# Altium integrated library TI Converter CODEC DSL.IntLib: 22 symbols
Pins are listed as number, name and electrical type; pins without a type are passive.

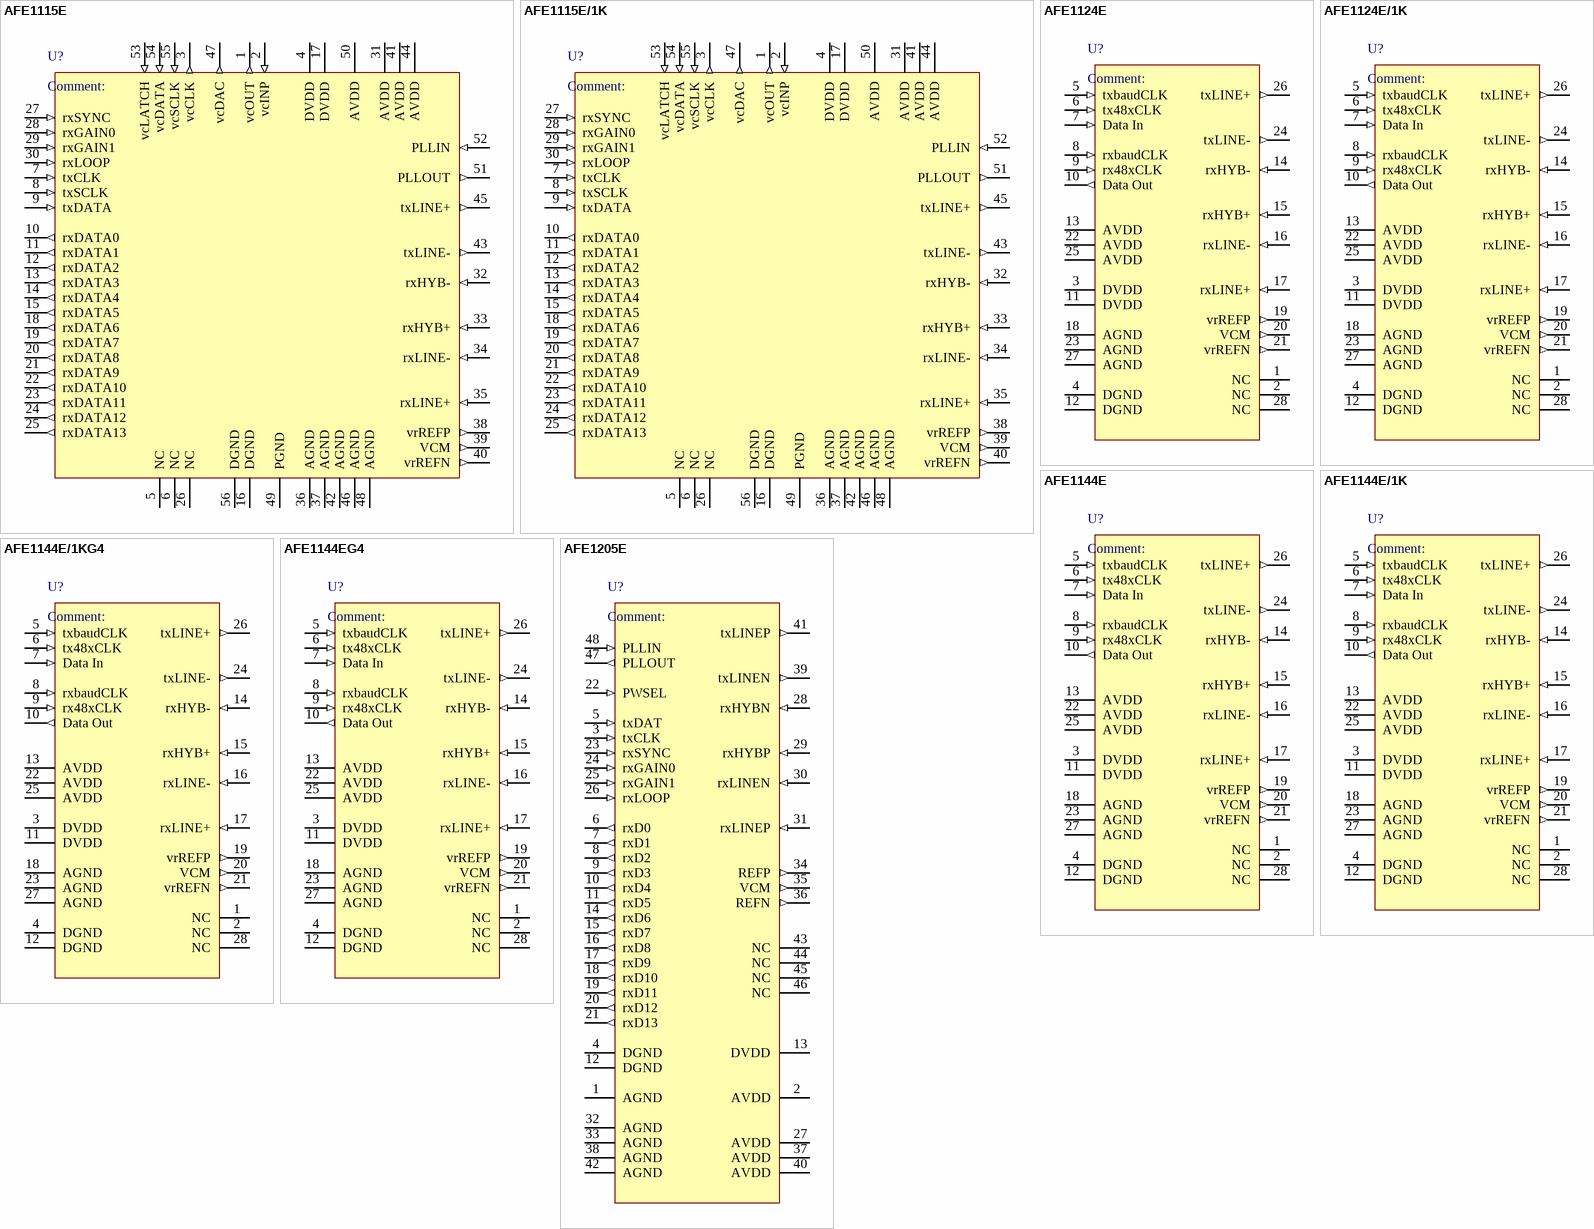
[diagram p0: symbols AFE1115E to AFE1205E]

## AFE1115E
designator U?
HDSL/MDSL Analog Front End with VCXO, 56-Pin Plastic SSOP; Published: 16-Dec-2005; DatasheetVersion: 11-Oct-2005; PackageVersion: Dec-2001; PackageReference: DL056; Publisher: Altium Limited; PackageDescription: SSOP; 56 Leads; Body Width 7.5 mm; Pitch 0.635 mm; Code_JEDEC: MO-118-AB; Code_IPC: SSO56
footprint DL056 (SSOP; 56 Leads; Body Width 7.5 mm; Pitch 0.635 mm)
pins: 1 vcOUT (out) "VCXO Output", 2 vcINP (in) "VCXO Input", 3 vcCLK (out) "VCXO Output Clock", 4 DVDD (power) "Digital Supply (+3.3 to +5V)", 5 NC "No Connection", 6 NC "No Connection", 7 txCLK (in) "Transmit Baud Clock (XMTLE signal) (1168kHz for E1)", 8 txSCLK (in) "Transmit Serial Clock", 9 txDATA (in) "Transmit Data Input", 10 rxDATA0 (out) "ADC Output Bit-0", 11 rxDATA1 (out) "ADC Output Bit-1", 12 rxDATA2 (out) "ADC Output Bit-2", 13 rxDATA3 (out) "ADC Output Bit-3", 14 rxDATA4 (out) "ADC Output Bit-4", 15 rxDATA5 (out) "ADC Output Bit-5", 16 DGND (power) "Digital Ground", 17 DVDD (power) "Digital Supply (+3.3 to +5V)", 18 rxDATA6 (out) "ADC Output Bit-6", 19 rxDATA7 (out) "ADC Output Bit-7", 20 rxDATA8 (out) "ADC Output Bit-8", 21 rxDATA9 (out) "ADC Output Bit-9", 22 rxDATA10 (out) "ADC Output Bit-10", 23 rxDATA11 (out) "ADC Output Bit-11", 24 rxDATA12 (out) "ADC Output Bit-12", 25 rxDATA13 (out) "ADC Output Bit-13", 26 NC "(DVDD may be connected for pinout compatibility with AFE1105)", 27 rxSYNC (in) "ADC Sync Signal (392kHz for T1, 584kHz for E1)", 28 rxGAIN0 (in) "Receive Gain Control Bit-0", 29 rxGAIN1 (in) "Receive Gain Control Bit-1", 30 rxLOOP (in) "Loopback Control Signal (loopback is enabled by positive signal)", 31 AVDD (power) "Analog Supply (+5V)", 32 rxHYB- (in) "Negative Input from Hybrid Network", 33 rxHYB+ (in) "Positive Input from Hybrid Network", 34 rxLINE- (in) "Negative Line Input", 35 rxLINE+ (in) "Positive Line Input", 36 AGND (power) "Analog Ground", 37 AGND (power) "Analog Ground", 38 vrREFP (out) "Positive Reference Output", 39 VCM (out) "Common-mode Voltage (buffered)", 40 vrREFN (out) "Negative Reference Output", 41 AVDD (power) "Analog Supply (+5V)", 42 AGND (power) "Analog Ground", 43 txLINE- (out) "Negative Line Output", 44 AVDD (power) "Analog Supply (+5V)", 45 txLINE+ (out) "Positive Line Output", 46 AGND (power) "Analog Ground", 47 vcDAC (out) "VCXO Control", 48 AGND (power) "Analog Ground", 49 PGND (power) "PLL Ground", 50 AVDD (power) "PLL Supply", 51 PLLOUT (out) "PLL Filter Output", 52 PLLIN (in) "PLL Filter Input", 53 vcLATCH (in) "VCXO Control Latch Enable", 54 vcDATA (in) "VCXO Control Data", 55 vcSCLK (in) "VCXO Control Serial Clock", 56 DGND (power) "Digital Ground"

## AFE1115E/1K
designator U?
HDSL/MDSL Analog Front End with VCXO, 56-Pin Plastic SSOP; Published: 16-Dec-2005; DatasheetVersion: 11-Oct-2005; PackageVersion: Dec-2001; PackageReference: DL056; Publisher: Altium Limited; PackageDescription: SSOP; 56 Leads; Body Width 7.5 mm; Pitch 0.635 mm; Code_JEDEC: MO-118-AB; Code_IPC: SSO56
footprint DL056 (SSOP; 56 Leads; Body Width 7.5 mm; Pitch 0.635 mm)
pins: 1 vcOUT (out) "VCXO Output", 2 vcINP (in) "VCXO Input", 3 vcCLK (out) "VCXO Output Clock", 4 DVDD (power) "Digital Supply (+3.3 to +5V)", 5 NC "No Connection", 6 NC "No Connection", 7 txCLK (in) "Transmit Baud Clock (XMTLE signal) (1168kHz for E1)", 8 txSCLK (in) "Transmit Serial Clock", 9 txDATA (in) "Transmit Data Input", 10 rxDATA0 (out) "ADC Output Bit-0", 11 rxDATA1 (out) "ADC Output Bit-1", 12 rxDATA2 (out) "ADC Output Bit-2", 13 rxDATA3 (out) "ADC Output Bit-3", 14 rxDATA4 (out) "ADC Output Bit-4", 15 rxDATA5 (out) "ADC Output Bit-5", 16 DGND (power) "Digital Ground", 17 DVDD (power) "Digital Supply (+3.3 to +5V)", 18 rxDATA6 (out) "ADC Output Bit-6", 19 rxDATA7 (out) "ADC Output Bit-7", 20 rxDATA8 (out) "ADC Output Bit-8", 21 rxDATA9 (out) "ADC Output Bit-9", 22 rxDATA10 (out) "ADC Output Bit-10", 23 rxDATA11 (out) "ADC Output Bit-11", 24 rxDATA12 (out) "ADC Output Bit-12", 25 rxDATA13 (out) "ADC Output Bit-13", 26 NC "(DVDD may be connected for pinout compatibility with AFE1105)", 27 rxSYNC (in) "ADC Sync Signal (392kHz for T1, 584kHz for E1)", 28 rxGAIN0 (in) "Receive Gain Control Bit-0", 29 rxGAIN1 (in) "Receive Gain Control Bit-1", 30 rxLOOP (in) "Loopback Control Signal (loopback is enabled by positive signal)", 31 AVDD (power) "Analog Supply (+5V)", 32 rxHYB- (in) "Negative Input from Hybrid Network", 33 rxHYB+ (in) "Positive Input from Hybrid Network", 34 rxLINE- (in) "Negative Line Input", 35 rxLINE+ (in) "Positive Line Input", 36 AGND (power) "Analog Ground", 37 AGND (power) "Analog Ground", 38 vrREFP (out) "Positive Reference Output", 39 VCM (out) "Common-mode Voltage (buffered)", 40 vrREFN (out) "Negative Reference Output", 41 AVDD (power) "Analog Supply (+5V)", 42 AGND (power) "Analog Ground", 43 txLINE- (out) "Negative Line Output", 44 AVDD (power) "Analog Supply (+5V)", 45 txLINE+ (out) "Positive Line Output", 46 AGND (power) "Analog Ground", 47 vcDAC (out) "VCXO Control", 48 AGND (power) "Analog Ground", 49 PGND (power) "PLL Ground", 50 AVDD (power) "PLL Supply", 51 PLLOUT (out) "PLL Filter Output", 52 PLLIN (in) "PLL Filter Input", 53 vcLATCH (in) "VCXO Control Latch Enable", 54 vcDATA (in) "VCXO Control Data", 55 vcSCLK (in) "VCXO Control Serial Clock", 56 DGND (power) "Digital Ground"

## AFE1124E
designator U?
HDSL/MDSL Analog Front End, 28-Pin SSOP; Published: 16-Dec-2005; DatasheetVersion: 27-May-2005; PackageVersion: Dec-2001; PackageReference: DB028; Publisher: Altium Limited; PackageDescription: SSOP, Plastic; 28 Leads; Body Width 5.3 mm; Pitch 0.65 mm; Code_JEDEC: MO-150-AH; ComponentLink1Description: Manufacturer Link; ComponentLink1URL: http://www.ti.com/; ComponentLink2Description: Datasheet; ComponentLink2URL: http://focus.ti.com/lit/ds/symlink/afe1124.pdf
footprint DB028 (SSOP, Plastic; 28 Leads; Body Width 5.3 mm; Pitch 0.65 mm)
pins: 1 NC "No Connection", 2 NC "No Connection", 3 DVDD (power) "Digital Supply (+3.3 to +5V)", 4 DGND (power) "Digital Ground", 5 txbaudCLK (in) "Transmit Baud Clock (584kHz for E1)", 6 tx48xCLK (in) "Transmit Clock at 48x baud clock (28.032MHz for E1)", 7 Data In (in) "Input Data Word", 8 rxbaudCLK (in) "Receive baud clock (584kHz for E1)", 9 rx48xCLK (in) "Receive clock at 48x baud clock (28.032MHz for E1)", 10 Data Out (out) "Output Data Word", 11 DVDD (power) "Digital Supply (+3.3 to +5V)", 12 DGND (power) "Digital Ground", 13 AVDD (power) "Analog Supply (+5V)", 14 rxHYB- (in) "Negative input from hybrid network", 15 rxHYB+ (in) "Positive input from hybrid network", 16 rxLINE- (in) "Negative line input", 17 rxLINE+ (in) "Positive line input", 18 AGND (power) "Analog Ground", 19 vrREFP (out) "Positive reference output", 20 VCM (out) "Common-mode voltage (buffered)", 21 vrREFN (out) "Negative reference output", 22 AVDD (power) "Analog Supply (+5V)", 23 AGND (power) "Analog Ground", 24 txLINE- (out) "Negative line output", 25 AVDD (power) "Output buffer supply (+5V)", 26 txLINE+ (out) "Positive line output", 27 AGND (power) "Output buffer ground", 28 NC "No Connection"

## AFE1124E/1K
designator U?
HDSL/MDSL Analog Front End, 28-Pin SSOP; Published: 16-Dec-2005; DatasheetVersion: 27-May-2005; PackageVersion: Dec-2001; PackageReference: DB028; Publisher: Altium Limited; PackageDescription: SSOP, Plastic; 28 Leads; Body Width 5.3 mm; Pitch 0.65 mm; Code_JEDEC: MO-150-AH; ComponentLink1Description: Manufacturer Link; ComponentLink1URL: http://www.ti.com/; ComponentLink2Description: Datasheet; ComponentLink2URL: http://focus.ti.com/lit/ds/symlink/afe1124.pdf
footprint DB028 (SSOP, Plastic; 28 Leads; Body Width 5.3 mm; Pitch 0.65 mm)
pins: 1 NC "No Connection", 2 NC "No Connection", 3 DVDD (power) "Digital Supply (+3.3 to +5V)", 4 DGND (power) "Digital Ground", 5 txbaudCLK (in) "Transmit Baud Clock (584kHz for E1)", 6 tx48xCLK (in) "Transmit Clock at 48x baud clock (28.032MHz for E1)", 7 Data In (in) "Input Data Word", 8 rxbaudCLK (in) "Receive baud clock (584kHz for E1)", 9 rx48xCLK (in) "Receive clock at 48x baud clock (28.032MHz for E1)", 10 Data Out (out) "Output Data Word", 11 DVDD (power) "Digital Supply (+3.3 to +5V)", 12 DGND (power) "Digital Ground", 13 AVDD (power) "Analog Supply (+5V)", 14 rxHYB- (in) "Negative input from hybrid network", 15 rxHYB+ (in) "Positive input from hybrid network", 16 rxLINE- (in) "Negative line input", 17 rxLINE+ (in) "Positive line input", 18 AGND (power) "Analog Ground", 19 vrREFP (out) "Positive reference output", 20 VCM (out) "Common-mode voltage (buffered)", 21 vrREFN (out) "Negative reference output", 22 AVDD (power) "Analog Supply (+5V)", 23 AGND (power) "Analog Ground", 24 txLINE- (out) "Negative line output", 25 AVDD (power) "Output buffer supply (+5V)", 26 txLINE+ (out) "Positive line output", 27 AGND (power) "Output buffer ground", 28 NC "No Connection"

## AFE1144E
designator U?
HDSL/MDSL Analog Front End, 28-Pin SSOP; Published: 16-Dec-2005; DatasheetVersion: 11-Oct-2005; PackageVersion: Dec-2001; PackageReference: DB028; Publisher: Altium Limited; PackageDescription: SSOP, Plastic; 28 Leads; Body Width 5.3 mm; Pitch 0.65 mm; Code_JEDEC: MO-150-AH
footprint DB028 (SSOP, Plastic; 28 Leads; Body Width 5.3 mm; Pitch 0.65 mm)
pins: 1 NC "No Connection", 2 NC "No Connection", 3 DVDD (power) "Digital Supply (+3.3 to +5V)", 4 DGND (power) "Digital Ground", 5 txbaudCLK (in) "Transmit Baud Clock (584kHz for E1)", 6 tx48xCLK (in) "Transmit Clock at 48x baud clock (28.032MHz for E1)", 7 Data In (in) "Input Data Word", 8 rxbaudCLK (in) "Receive baud clock (584kHz for E1)", 9 rx48xCLK (in) "Receive clock at 48x baud clock (28.032MHz for E1)", 10 Data Out (out) "Output Data Word", 11 DVDD (power) "Digital Supply (+3.3 to +5V)", 12 DGND (power) "Digital Ground", 13 AVDD (power) "Analog Supply (+5V)", 14 rxHYB- (in) "Negative input from hybrid network", 15 rxHYB+ (in) "Positive input from hybrid network", 16 rxLINE- (in) "Negative line input", 17 rxLINE+ (in) "Positive line input", 18 AGND (power) "Analog Ground", 19 vrREFP (out) "Positive reference output", 20 VCM (out) "Common-mode voltage (buffered)", 21 vrREFN (out) "Negative reference output", 22 AVDD (power) "Analog Supply (+5V)", 23 AGND (power) "Analog Ground", 24 txLINE- (out) "Negative line output", 25 AVDD (power) "Output buffer supply (+5V)", 26 txLINE+ (out) "Positive line output", 27 AGND (power) "Output buffer ground", 28 NC "No Connection"

## AFE1144E/1K
designator U?
HDSL/MDSL Analog Front End, 28-Pin SSOP; Published: 16-Dec-2005; DatasheetVersion: 11-Oct-2005; PackageVersion: Dec-2001; PackageReference: DB028; Publisher: Altium Limited; PackageDescription: SSOP, Plastic; 28 Leads; Body Width 5.3 mm; Pitch 0.65 mm; Code_JEDEC: MO-150-AH
footprint DB028 (SSOP, Plastic; 28 Leads; Body Width 5.3 mm; Pitch 0.65 mm)
pins: 1 NC "No Connection", 2 NC "No Connection", 3 DVDD (power) "Digital Supply (+3.3 to +5V)", 4 DGND (power) "Digital Ground", 5 txbaudCLK (in) "Transmit Baud Clock (584kHz for E1)", 6 tx48xCLK (in) "Transmit Clock at 48x baud clock (28.032MHz for E1)", 7 Data In (in) "Input Data Word", 8 rxbaudCLK (in) "Receive baud clock (584kHz for E1)", 9 rx48xCLK (in) "Receive clock at 48x baud clock (28.032MHz for E1)", 10 Data Out (out) "Output Data Word", 11 DVDD (power) "Digital Supply (+3.3 to +5V)", 12 DGND (power) "Digital Ground", 13 AVDD (power) "Analog Supply (+5V)", 14 rxHYB- (in) "Negative input from hybrid network", 15 rxHYB+ (in) "Positive input from hybrid network", 16 rxLINE- (in) "Negative line input", 17 rxLINE+ (in) "Positive line input", 18 AGND (power) "Analog Ground", 19 vrREFP (out) "Positive reference output", 20 VCM (out) "Common-mode voltage (buffered)", 21 vrREFN (out) "Negative reference output", 22 AVDD (power) "Analog Supply (+5V)", 23 AGND (power) "Analog Ground", 24 txLINE- (out) "Negative line output", 25 AVDD (power) "Output buffer supply (+5V)", 26 txLINE+ (out) "Positive line output", 27 AGND (power) "Output buffer ground", 28 NC "No Connection"

## AFE1144E/1KG4
designator U?
HDSL/MDSL Analog Front End, 28-Pin SSOP; Published: 16-Dec-2005; DatasheetVersion: 11-Oct-2005; PackageVersion: Dec-2001; PackageReference: DB028; Publisher: Altium Limited; PackageDescription: SSOP, Plastic; 28 Leads; Body Width 5.3 mm; Pitch 0.65 mm; Code_JEDEC: MO-150-AH
footprint DB028 (SSOP, Plastic; 28 Leads; Body Width 5.3 mm; Pitch 0.65 mm)
pins: 1 NC "No Connection", 2 NC "No Connection", 3 DVDD (power) "Digital Supply (+3.3 to +5V)", 4 DGND (power) "Digital Ground", 5 txbaudCLK (in) "Transmit Baud Clock (584kHz for E1)", 6 tx48xCLK (in) "Transmit Clock at 48x baud clock (28.032MHz for E1)", 7 Data In (in) "Input Data Word", 8 rxbaudCLK (in) "Receive baud clock (584kHz for E1)", 9 rx48xCLK (in) "Receive clock at 48x baud clock (28.032MHz for E1)", 10 Data Out (out) "Output Data Word", 11 DVDD (power) "Digital Supply (+3.3 to +5V)", 12 DGND (power) "Digital Ground", 13 AVDD (power) "Analog Supply (+5V)", 14 rxHYB- (in) "Negative input from hybrid network", 15 rxHYB+ (in) "Positive input from hybrid network", 16 rxLINE- (in) "Negative line input", 17 rxLINE+ (in) "Positive line input", 18 AGND (power) "Analog Ground", 19 vrREFP (out) "Positive reference output", 20 VCM (out) "Common-mode voltage (buffered)", 21 vrREFN (out) "Negative reference output", 22 AVDD (power) "Analog Supply (+5V)", 23 AGND (power) "Analog Ground", 24 txLINE- (out) "Negative line output", 25 AVDD (power) "Output buffer supply (+5V)", 26 txLINE+ (out) "Positive line output", 27 AGND (power) "Output buffer ground", 28 NC "No Connection"

## AFE1144EG4
designator U?
HDSL/MDSL Analog Front End, 28-Pin SSOP; Published: 16-Dec-2005; DatasheetVersion: 11-Oct-2005; PackageVersion: Dec-2001; PackageReference: DB028; Publisher: Altium Limited; PackageDescription: SSOP, Plastic; 28 Leads; Body Width 5.3 mm; Pitch 0.65 mm; Code_JEDEC: MO-150-AH
footprint DB028 (SSOP, Plastic; 28 Leads; Body Width 5.3 mm; Pitch 0.65 mm)
pins: 1 NC "No Connection", 2 NC "No Connection", 3 DVDD (power) "Digital Supply (+3.3 to +5V)", 4 DGND (power) "Digital Ground", 5 txbaudCLK (in) "Transmit Baud Clock (584kHz for E1)", 6 tx48xCLK (in) "Transmit Clock at 48x baud clock (28.032MHz for E1)", 7 Data In (in) "Input Data Word", 8 rxbaudCLK (in) "Receive baud clock (584kHz for E1)", 9 rx48xCLK (in) "Receive clock at 48x baud clock (28.032MHz for E1)", 10 Data Out (out) "Output Data Word", 11 DVDD (power) "Digital Supply (+3.3 to +5V)", 12 DGND (power) "Digital Ground", 13 AVDD (power) "Analog Supply (+5V)", 14 rxHYB- (in) "Negative input from hybrid network", 15 rxHYB+ (in) "Positive input from hybrid network", 16 rxLINE- (in) "Negative line input", 17 rxLINE+ (in) "Positive line input", 18 AGND (power) "Analog Ground", 19 vrREFP (out) "Positive reference output", 20 VCM (out) "Common-mode voltage (buffered)", 21 vrREFN (out) "Negative reference output", 22 AVDD (power) "Analog Supply (+5V)", 23 AGND (power) "Analog Ground", 24 txLINE- (out) "Negative line output", 25 AVDD (power) "Output buffer supply (+5V)", 26 txLINE+ (out) "Positive line output", 27 AGND (power) "Output buffer ground", 28 NC "No Connection"

## AFE1205E
designator U?
2Mbps, Single Pair HDSL Analog Front End, 48-Pin SSOP; Published: 16-Dec-2005; DatasheetVersion: 11-Oct-2005; PackageVersion: Dec-2001; PackageReference: DL048; Publisher: Altium Limited; PackageDescription: SSOP; 48 Leads; Body Width 7.5 mm; Pitch 0.635 mm; Code_JEDEC: MO-118-AA; Code_IPC: SSO48; ComponentLink1Description: Manufacturer Link; ComponentLink1URL: http://www.ti.com/; ComponentLink2Description: Datasheet; ComponentLink2URL: http://focus.ti.com/lit/ds/symlink/afe1205.pdf
footprint DL048 (SSOP; 48 Leads; Body Width 7.5 mm; Pitch 0.635 mm)
pins: 1 AGND (power) "Analog Ground for PLL", 2 AVDD (power) "Analog Supply (+5V) for PLL", 3 txCLK (in) "Symbol Clock", 4 DGND (power) "Digital Ground", 5 txDAT (in) "XMTDA from MtH1210B", 6 rxD0 (out) "ADC Output Bit 0", 7 rxD1 (out) "ADC Output Bit 1", 8 rxD2 (out) "ADC Output Bit 2", 9 rxD3 (out) "ADC Output Bit 3", 10 rxD4 (out) "ADC Output Bit 4", 11 rxD5 (out) "ADC Output Bit 5", 12 DGND (power) "Digital Ground", 13 DVDD (power) "Digital Supply (+3.3V to +5V)", 14 rxD6 (out) "ADC Output Bit 6", 15 rxD7 (out) "ADC Output Bit 7", 16 rxD8 (out) "ADC Output Bit 8", 17 rxD9 (out) "ADC Output Bit 9", 18 rxD10 (out) "ADC Output Bit 10", 19 rxD11 (out) "ADC Output Bit 11", 20 rxD12 (out) "ADC Output Bit 12", 21 rxD13 (out) "ADC Output Bit 13", 22 PWSEL (in) "Power Control", 23 rxSYNC (in) "ADC Sync Signal", 24 rxGAIN0 (in) "Receive Gain Control Bit 0", 25 rxGAIN1 (in) "Receive Gain Control Bit 1", 26 rxLOOP (in) "Loopback Control Signal (loopback is enabled by positive signal)", 27 AVDD (power) "Analog Supply (+5V)", 28 rxHYBN (in) "Negative Input from Hybrid Network", 29 rxHYBP (in) "Positive Input from Hybrid Network", 30 rxLINEN (in) "Negative Line Input", 31 rxLINEP (in) "Positive Line Input", 32 AGND (power) "Analog Ground", 33 AGND (power) "Analog Ground", 34 REFP (out) "Positive Reference Output, Nominally 3.5V", 35 VCM (out) "Common-Mode Voltage (buffered), Nominally 2.5V", 36 REFN (out) "Negative Reference Output, Nominally 1.5V", 37 AVDD (power) "Analog Supply (+5V)", 38 AGND (power) "Analog Ground", 39 txLINEN (out) "Transmit Line Output Negative", 40 AVDD (power) "Analog Supply (+5V)", 41 txLINEP (out) "Transmit Line Output Positive", 42 AGND (power) "Analog Ground", 43 NC "Connection to Ground Recommended", 44 NC "Connection to Ground Recommended", 45 NC "Connection to Ground Recommended", 46 NC "Connection to Ground Recommended", 47 PLLOUT (out) "PLL Filter Output", 48 PLLIN (in) "PLL Filter Input"

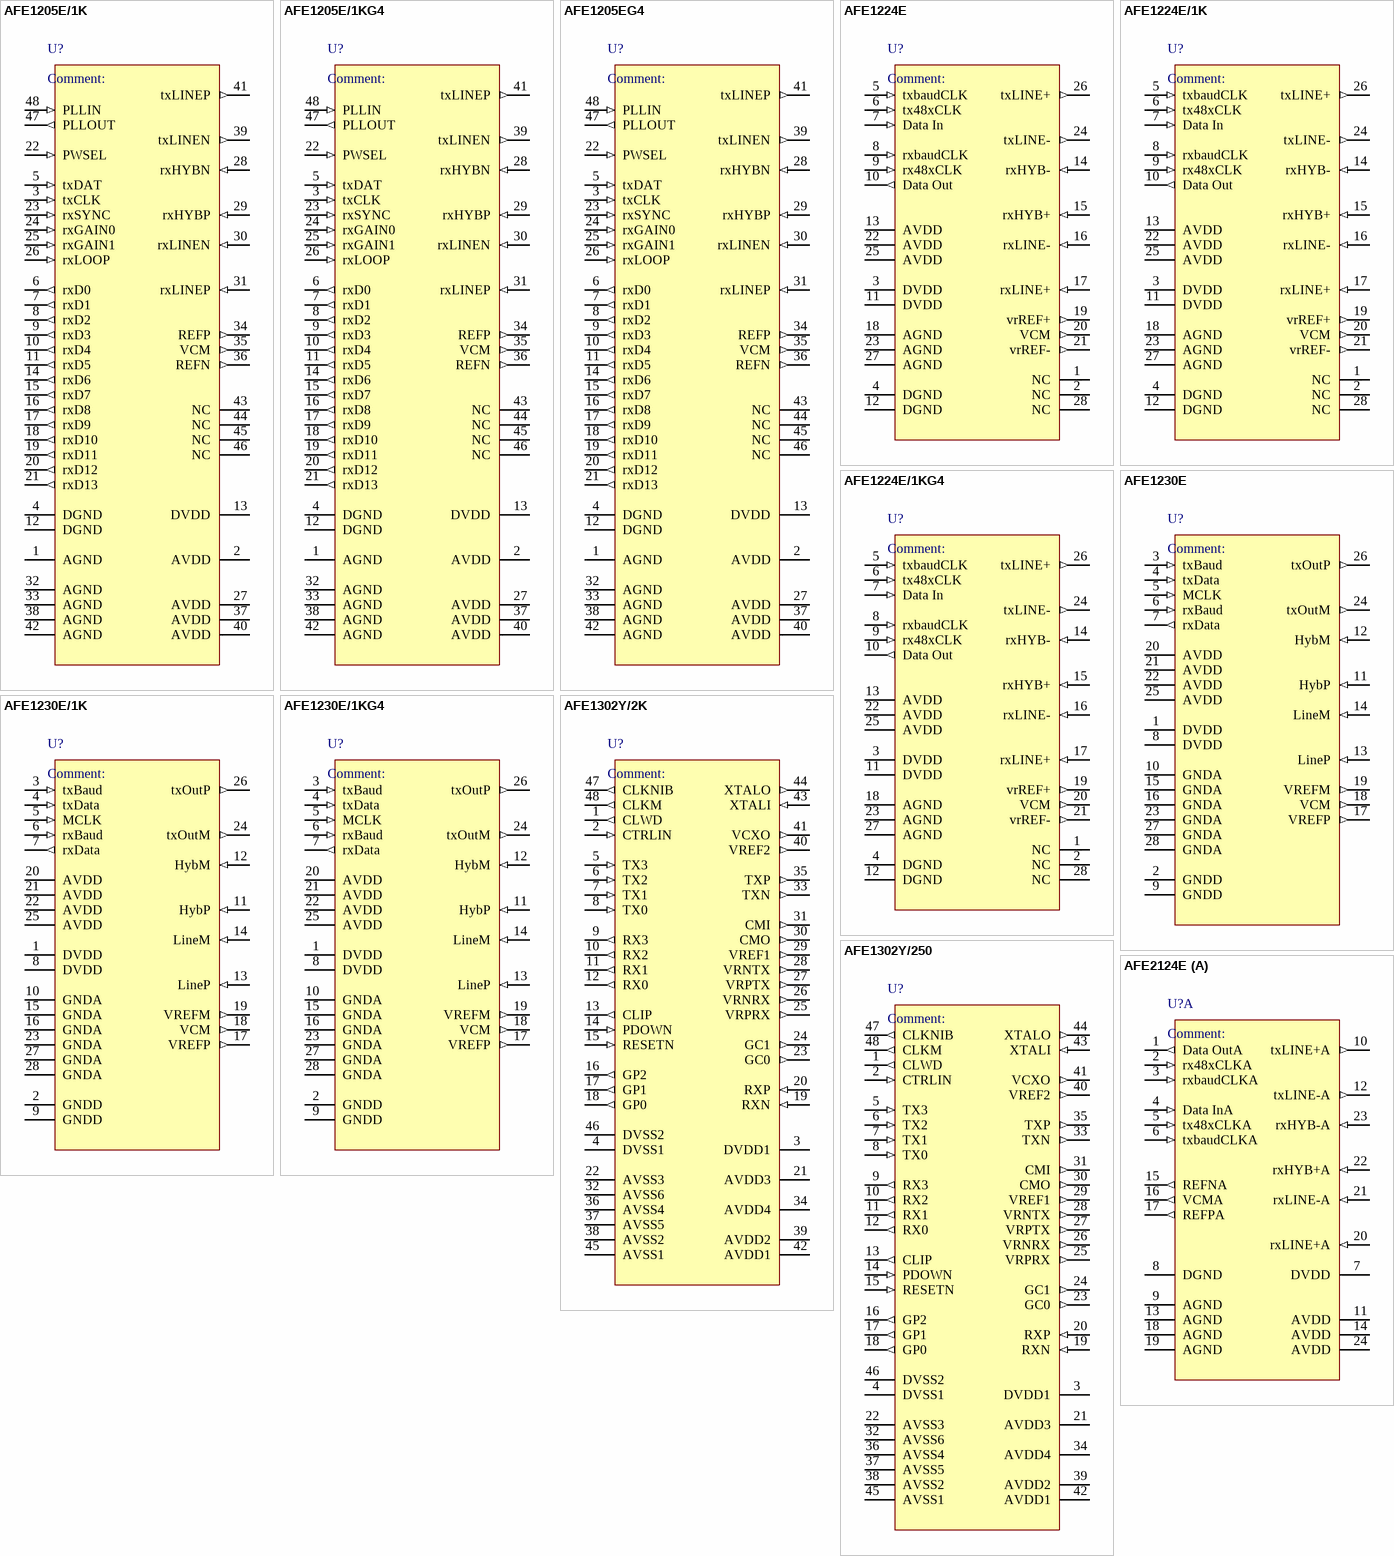
[diagram p1: symbols AFE1205E/1K to AFE2124E]

## AFE1205E/1K
designator U?
2Mbps, Single Pair HDSL Analog Front End, 48-Pin SSOP; Published: 16-Dec-2005; DatasheetVersion: 11-Oct-2005; PackageVersion: Dec-2001; PackageReference: DL048; Publisher: Altium Limited; PackageDescription: SSOP; 48 Leads; Body Width 7.5 mm; Pitch 0.635 mm; Code_JEDEC: MO-118-AA; Code_IPC: SSO48; ComponentLink1Description: Manufacturer Link; ComponentLink1URL: http://www.ti.com/; ComponentLink2Description: Datasheet; ComponentLink2URL: http://focus.ti.com/lit/ds/symlink/afe1205.pdf
footprint DL048 (SSOP; 48 Leads; Body Width 7.5 mm; Pitch 0.635 mm)
pins: 1 AGND (power) "Analog Ground for PLL", 2 AVDD (power) "Analog Supply (+5V) for PLL", 3 txCLK (in) "Symbol Clock", 4 DGND (power) "Digital Ground", 5 txDAT (in) "XMTDA from MtH1210B", 6 rxD0 (out) "ADC Output Bit 0", 7 rxD1 (out) "ADC Output Bit 1", 8 rxD2 (out) "ADC Output Bit 2", 9 rxD3 (out) "ADC Output Bit 3", 10 rxD4 (out) "ADC Output Bit 4", 11 rxD5 (out) "ADC Output Bit 5", 12 DGND (power) "Digital Ground", 13 DVDD (power) "Digital Supply (+3.3V to +5V)", 14 rxD6 (out) "ADC Output Bit 6", 15 rxD7 (out) "ADC Output Bit 7", 16 rxD8 (out) "ADC Output Bit 8", 17 rxD9 (out) "ADC Output Bit 9", 18 rxD10 (out) "ADC Output Bit 10", 19 rxD11 (out) "ADC Output Bit 11", 20 rxD12 (out) "ADC Output Bit 12", 21 rxD13 (out) "ADC Output Bit 13", 22 PWSEL (in) "Power Control", 23 rxSYNC (in) "ADC Sync Signal", 24 rxGAIN0 (in) "Receive Gain Control Bit 0", 25 rxGAIN1 (in) "Receive Gain Control Bit 1", 26 rxLOOP (in) "Loopback Control Signal (loopback is enabled by positive signal)", 27 AVDD (power) "Analog Supply (+5V)", 28 rxHYBN (in) "Negative Input from Hybrid Network", 29 rxHYBP (in) "Positive Input from Hybrid Network", 30 rxLINEN (in) "Negative Line Input", 31 rxLINEP (in) "Positive Line Input", 32 AGND (power) "Analog Ground", 33 AGND (power) "Analog Ground", 34 REFP (out) "Positive Reference Output, Nominally 3.5V", 35 VCM (out) "Common-Mode Voltage (buffered), Nominally 2.5V", 36 REFN (out) "Negative Reference Output, Nominally 1.5V", 37 AVDD (power) "Analog Supply (+5V)", 38 AGND (power) "Analog Ground", 39 txLINEN (out) "Transmit Line Output Negative", 40 AVDD (power) "Analog Supply (+5V)", 41 txLINEP (out) "Transmit Line Output Positive", 42 AGND (power) "Analog Ground", 43 NC "Connection to Ground Recommended", 44 NC "Connection to Ground Recommended", 45 NC "Connection to Ground Recommended", 46 NC "Connection to Ground Recommended", 47 PLLOUT (out) "PLL Filter Output", 48 PLLIN (in) "PLL Filter Input"

## AFE1205E/1KG4
designator U?
2Mbps, Single Pair HDSL Analog Front End, 48-Pin SSOP; Published: 16-Dec-2005; DatasheetVersion: 11-Oct-2005; PackageVersion: Dec-2001; PackageReference: DL048; Publisher: Altium Limited; PackageDescription: SSOP; 48 Leads; Body Width 7.5 mm; Pitch 0.635 mm; Code_JEDEC: MO-118-AA; Code_IPC: SSO48; ComponentLink1Description: Manufacturer Link; ComponentLink1URL: http://www.ti.com/; ComponentLink2Description: Datasheet; ComponentLink2URL: http://focus.ti.com/lit/ds/symlink/afe1205.pdf
footprint DL048 (SSOP; 48 Leads; Body Width 7.5 mm; Pitch 0.635 mm)
pins: 1 AGND (power) "Analog Ground for PLL", 2 AVDD (power) "Analog Supply (+5V) for PLL", 3 txCLK (in) "Symbol Clock", 4 DGND (power) "Digital Ground", 5 txDAT (in) "XMTDA from MtH1210B", 6 rxD0 (out) "ADC Output Bit 0", 7 rxD1 (out) "ADC Output Bit 1", 8 rxD2 (out) "ADC Output Bit 2", 9 rxD3 (out) "ADC Output Bit 3", 10 rxD4 (out) "ADC Output Bit 4", 11 rxD5 (out) "ADC Output Bit 5", 12 DGND (power) "Digital Ground", 13 DVDD (power) "Digital Supply (+3.3V to +5V)", 14 rxD6 (out) "ADC Output Bit 6", 15 rxD7 (out) "ADC Output Bit 7", 16 rxD8 (out) "ADC Output Bit 8", 17 rxD9 (out) "ADC Output Bit 9", 18 rxD10 (out) "ADC Output Bit 10", 19 rxD11 (out) "ADC Output Bit 11", 20 rxD12 (out) "ADC Output Bit 12", 21 rxD13 (out) "ADC Output Bit 13", 22 PWSEL (in) "Power Control", 23 rxSYNC (in) "ADC Sync Signal", 24 rxGAIN0 (in) "Receive Gain Control Bit 0", 25 rxGAIN1 (in) "Receive Gain Control Bit 1", 26 rxLOOP (in) "Loopback Control Signal (loopback is enabled by positive signal)", 27 AVDD (power) "Analog Supply (+5V)", 28 rxHYBN (in) "Negative Input from Hybrid Network", 29 rxHYBP (in) "Positive Input from Hybrid Network", 30 rxLINEN (in) "Negative Line Input", 31 rxLINEP (in) "Positive Line Input", 32 AGND (power) "Analog Ground", 33 AGND (power) "Analog Ground", 34 REFP (out) "Positive Reference Output, Nominally 3.5V", 35 VCM (out) "Common-Mode Voltage (buffered), Nominally 2.5V", 36 REFN (out) "Negative Reference Output, Nominally 1.5V", 37 AVDD (power) "Analog Supply (+5V)", 38 AGND (power) "Analog Ground", 39 txLINEN (out) "Transmit Line Output Negative", 40 AVDD (power) "Analog Supply (+5V)", 41 txLINEP (out) "Transmit Line Output Positive", 42 AGND (power) "Analog Ground", 43 NC "Connection to Ground Recommended", 44 NC "Connection to Ground Recommended", 45 NC "Connection to Ground Recommended", 46 NC "Connection to Ground Recommended", 47 PLLOUT (out) "PLL Filter Output", 48 PLLIN (in) "PLL Filter Input"

## AFE1205EG4
designator U?
2Mbps, Single Pair HDSL Analog Front End, 48-Pin SSOP; Published: 16-Dec-2005; DatasheetVersion: 11-Oct-2005; PackageVersion: Dec-2001; PackageReference: DL048; Publisher: Altium Limited; PackageDescription: SSOP; 48 Leads; Body Width 7.5 mm; Pitch 0.635 mm; Code_JEDEC: MO-118-AA; Code_IPC: SSO48; ComponentLink1Description: Manufacturer Link; ComponentLink1URL: http://www.ti.com/; ComponentLink2Description: Datasheet; ComponentLink2URL: http://focus.ti.com/lit/ds/symlink/afe1205.pdf
footprint DL048 (SSOP; 48 Leads; Body Width 7.5 mm; Pitch 0.635 mm)
pins: 1 AGND (power) "Analog Ground for PLL", 2 AVDD (power) "Analog Supply (+5V) for PLL", 3 txCLK (in) "Symbol Clock", 4 DGND (power) "Digital Ground", 5 txDAT (in) "XMTDA from MtH1210B", 6 rxD0 (out) "ADC Output Bit 0", 7 rxD1 (out) "ADC Output Bit 1", 8 rxD2 (out) "ADC Output Bit 2", 9 rxD3 (out) "ADC Output Bit 3", 10 rxD4 (out) "ADC Output Bit 4", 11 rxD5 (out) "ADC Output Bit 5", 12 DGND (power) "Digital Ground", 13 DVDD (power) "Digital Supply (+3.3V to +5V)", 14 rxD6 (out) "ADC Output Bit 6", 15 rxD7 (out) "ADC Output Bit 7", 16 rxD8 (out) "ADC Output Bit 8", 17 rxD9 (out) "ADC Output Bit 9", 18 rxD10 (out) "ADC Output Bit 10", 19 rxD11 (out) "ADC Output Bit 11", 20 rxD12 (out) "ADC Output Bit 12", 21 rxD13 (out) "ADC Output Bit 13", 22 PWSEL (in) "Power Control", 23 rxSYNC (in) "ADC Sync Signal", 24 rxGAIN0 (in) "Receive Gain Control Bit 0", 25 rxGAIN1 (in) "Receive Gain Control Bit 1", 26 rxLOOP (in) "Loopback Control Signal (loopback is enabled by positive signal)", 27 AVDD (power) "Analog Supply (+5V)", 28 rxHYBN (in) "Negative Input from Hybrid Network", 29 rxHYBP (in) "Positive Input from Hybrid Network", 30 rxLINEN (in) "Negative Line Input", 31 rxLINEP (in) "Positive Line Input", 32 AGND (power) "Analog Ground", 33 AGND (power) "Analog Ground", 34 REFP (out) "Positive Reference Output, Nominally 3.5V", 35 VCM (out) "Common-Mode Voltage (buffered), Nominally 2.5V", 36 REFN (out) "Negative Reference Output, Nominally 1.5V", 37 AVDD (power) "Analog Supply (+5V)", 38 AGND (power) "Analog Ground", 39 txLINEN (out) "Transmit Line Output Negative", 40 AVDD (power) "Analog Supply (+5V)", 41 txLINEP (out) "Transmit Line Output Positive", 42 AGND (power) "Analog Ground", 43 NC "Connection to Ground Recommended", 44 NC "Connection to Ground Recommended", 45 NC "Connection to Ground Recommended", 46 NC "Connection to Ground Recommended", 47 PLLOUT (out) "PLL Filter Output", 48 PLLIN (in) "PLL Filter Input"

## AFE1224E
designator U?
2Mbps, Single Pair Analog Front End, 28-Pin SSOP; Published: 16-Dec-2005; DatasheetVersion: 11-Oct-2005; PackageVersion: Dec-2001; PackageReference: DB028; Publisher: Altium Limited; PackageDescription: SSOP, Plastic; 28 Leads; Body Width 5.3 mm; Pitch 0.65 mm; Code_JEDEC: MO-150-AH
footprint DB028 (SSOP, Plastic; 28 Leads; Body Width 5.3 mm; Pitch 0.65 mm)
pins: 1 NC "No Connection", 2 NC "No Connection", 3 DVDD (power) "Digital Supply (+3.3 to +5V)", 4 DGND (power) "Digital Ground", 5 txbaudCLK (in) "Transmit Baud Clock", 6 tx48xCLK (in) "Transmit Clock at 48x Baud Clock", 7 Data In (in) "Input Data Word", 8 rxbaudCLK (in) "Receive Baud Clock", 9 rx48xCLK (in) "Receive Clock at 48x Baud Clock", 10 Data Out (out) "Output Data Word", 11 DVDD (power) "Digital Supply (+3.3V to +5V)", 12 DGND (power) "Digital Ground", 13 AVDD (power) "Analog Supply (+5V)", 14 rxHYB- (in) "Negative Input from Hybrid Network", 15 rxHYB+ (in) "Positive Input from Hybrid Network", 16 rxLINE- (in) "Negative Line Input", 17 rxLINE+ (in) "Positive Line Input", 18 AGND (power) "Analog Ground", 19 vrREF+ (out) "Positive Reference Output", 20 VCM (out) "Common-Mode Voltage (buffered)", 21 vrREF- (out) "Negative Reference Output", 22 AVDD (power) "Analog Supply (+5V)", 23 AGND (power) "Analog Ground", 24 txLINE- (out) "Negative Line Output", 25 AVDD (power) "Output Buffer Supply (+5V)", 26 txLINE+ (out) "Positive Line Output", 27 AGND (power) "Output Buffer Ground", 28 NC "No Connection"

## AFE1224E/1K
designator U?
2Mbps, Single Pair Analog Front End, 28-Pin SSOP; Published: 16-Dec-2005; DatasheetVersion: 11-Oct-2005; PackageVersion: Dec-2001; PackageReference: DB028; Publisher: Altium Limited; PackageDescription: SSOP, Plastic; 28 Leads; Body Width 5.3 mm; Pitch 0.65 mm; Code_JEDEC: MO-150-AH
footprint DB028 (SSOP, Plastic; 28 Leads; Body Width 5.3 mm; Pitch 0.65 mm)
pins: 1 NC "No Connection", 2 NC "No Connection", 3 DVDD (power) "Digital Supply (+3.3 to +5V)", 4 DGND (power) "Digital Ground", 5 txbaudCLK (in) "Transmit Baud Clock", 6 tx48xCLK (in) "Transmit Clock at 48x Baud Clock", 7 Data In (in) "Input Data Word", 8 rxbaudCLK (in) "Receive Baud Clock", 9 rx48xCLK (in) "Receive Clock at 48x Baud Clock", 10 Data Out (out) "Output Data Word", 11 DVDD (power) "Digital Supply (+3.3V to +5V)", 12 DGND (power) "Digital Ground", 13 AVDD (power) "Analog Supply (+5V)", 14 rxHYB- (in) "Negative Input from Hybrid Network", 15 rxHYB+ (in) "Positive Input from Hybrid Network", 16 rxLINE- (in) "Negative Line Input", 17 rxLINE+ (in) "Positive Line Input", 18 AGND (power) "Analog Ground", 19 vrREF+ (out) "Positive Reference Output", 20 VCM (out) "Common-Mode Voltage (buffered)", 21 vrREF- (out) "Negative Reference Output", 22 AVDD (power) "Analog Supply (+5V)", 23 AGND (power) "Analog Ground", 24 txLINE- (out) "Negative Line Output", 25 AVDD (power) "Output Buffer Supply (+5V)", 26 txLINE+ (out) "Positive Line Output", 27 AGND (power) "Output Buffer Ground", 28 NC "No Connection"

## AFE1224E/1KG4
designator U?
2Mbps, Single Pair Analog Front End, 28-Pin SSOP; Published: 16-Dec-2005; DatasheetVersion: 11-Oct-2005; PackageVersion: Dec-2001; PackageReference: DB028; Publisher: Altium Limited; PackageDescription: SSOP, Plastic; 28 Leads; Body Width 5.3 mm; Pitch 0.65 mm; Code_JEDEC: MO-150-AH
footprint DB028 (SSOP, Plastic; 28 Leads; Body Width 5.3 mm; Pitch 0.65 mm)
pins: 1 NC "No Connection", 2 NC "No Connection", 3 DVDD (power) "Digital Supply (+3.3 to +5V)", 4 DGND (power) "Digital Ground", 5 txbaudCLK (in) "Transmit Baud Clock", 6 tx48xCLK (in) "Transmit Clock at 48x Baud Clock", 7 Data In (in) "Input Data Word", 8 rxbaudCLK (in) "Receive Baud Clock", 9 rx48xCLK (in) "Receive Clock at 48x Baud Clock", 10 Data Out (out) "Output Data Word", 11 DVDD (power) "Digital Supply (+3.3V to +5V)", 12 DGND (power) "Digital Ground", 13 AVDD (power) "Analog Supply (+5V)", 14 rxHYB- (in) "Negative Input from Hybrid Network", 15 rxHYB+ (in) "Positive Input from Hybrid Network", 16 rxLINE- (in) "Negative Line Input", 17 rxLINE+ (in) "Positive Line Input", 18 AGND (power) "Analog Ground", 19 vrREF+ (out) "Positive Reference Output", 20 VCM (out) "Common-Mode Voltage (buffered)", 21 vrREF- (out) "Negative Reference Output", 22 AVDD (power) "Analog Supply (+5V)", 23 AGND (power) "Analog Ground", 24 txLINE- (out) "Negative Line Output", 25 AVDD (power) "Output Buffer Supply (+5V)", 26 txLINE+ (out) "Positive Line Output", 27 AGND (power) "Output Buffer Ground", 28 NC "No Connection"

## AFE1230E
designator U?
G.SHDSL Analog Front End, 28-Pin SSOP; Published: 16-Dec-2005; DatasheetVersion: 19-May-2005; PackageVersion: Dec-2001; PackageReference: DB028; Publisher: Altium Limited; PackageDescription: SSOP, Plastic; 28 Leads; Body Width 5.3 mm; Pitch 0.65 mm; Code_JEDEC: MO-150-AH; ComponentLink1Description: Manufacturer Link; ComponentLink1URL: http://www.ti.com/; ComponentLink2Description: Datasheet; ComponentLink2URL: http://focus.ti.com/lit/ds/symlink/afe1230.pdf
footprint DB028 (SSOP, Plastic; 28 Leads; Body Width 5.3 mm; Pitch 0.65 mm)
pins: 1 DVDD (power) "Digital Supply", 2 GNDD (power) "Digital Ground", 3 txBaud (in) "Transmit Baud Clock", 4 txData (in) "Digital Input of Transmit Section", 5 MCLK (in) "Master Clock 48x Clock", 6 rxBaud (in) "Recieve Baud Clock", 7 rxData (out) "Digital Output of Recieve Section", 8 DVDD (power) "Digital Supply", 9 GNDD (power) "Digital Ground", 10 GNDA (power) "Analog Ground", 11 HybP (in) "Positive Hybrid Input", 12 HybM (in) "Negative Hybrid Input", 13 LineP (in) "Positive Line Input", 14 LineM (in) "Negative Line Input", 15 GNDA (power) "Analog Ground Recieve", 16 GNDA (power) "Analog Ground Reference", 17 VREFP (out) "Positive Reference Voltage, rx/tx", 18 VCM (out) "Common-Mode Voltage, rx/tx", 19 VREFM (out) "Negative Reference Input, rx/tx", 20 AVDD (power) "Analog Supply Reference", 21 AVDD (power) "Analog Supply Recieve", 22 AVDD (power) "Analog Supply Transmit", 23 GNDA (power) "Analog Ground/Driver", 24 txOutM (out) "Line Driver Output Negative", 25 AVDD (power) "Analog Supply/Driver", 26 txOutP (out) "Line Driver Output Positive", 27 GNDA (power) "Analog Ground/Driver", 28 GNDA (power) "Analog Ground Transmit"

## AFE1230E/1K
designator U?
G.SHDSL Analog Front End, 28-Pin SSOP; Published: 16-Dec-2005; DatasheetVersion: 19-May-2005; PackageVersion: Dec-2001; PackageReference: DB028; Publisher: Altium Limited; PackageDescription: SSOP, Plastic; 28 Leads; Body Width 5.3 mm; Pitch 0.65 mm; Code_JEDEC: MO-150-AH; ComponentLink1Description: Manufacturer Link; ComponentLink1URL: http://www.ti.com/; ComponentLink2Description: Datasheet; ComponentLink2URL: http://focus.ti.com/lit/ds/symlink/afe1230.pdf
footprint DB028 (SSOP, Plastic; 28 Leads; Body Width 5.3 mm; Pitch 0.65 mm)
pins: 1 DVDD (power) "Digital Supply", 2 GNDD (power) "Digital Ground", 3 txBaud (in) "Transmit Baud Clock", 4 txData (in) "Digital Input of Transmit Section", 5 MCLK (in) "Master Clock 48x Clock", 6 rxBaud (in) "Recieve Baud Clock", 7 rxData (out) "Digital Output of Recieve Section", 8 DVDD (power) "Digital Supply", 9 GNDD (power) "Digital Ground", 10 GNDA (power) "Analog Ground", 11 HybP (in) "Positive Hybrid Input", 12 HybM (in) "Negative Hybrid Input", 13 LineP (in) "Positive Line Input", 14 LineM (in) "Negative Line Input", 15 GNDA (power) "Analog Ground Recieve", 16 GNDA (power) "Analog Ground Reference", 17 VREFP (out) "Positive Reference Voltage, rx/tx", 18 VCM (out) "Common-Mode Voltage, rx/tx", 19 VREFM (out) "Negative Reference Input, rx/tx", 20 AVDD (power) "Analog Supply Reference", 21 AVDD (power) "Analog Supply Recieve", 22 AVDD (power) "Analog Supply Transmit", 23 GNDA (power) "Analog Ground/Driver", 24 txOutM (out) "Line Driver Output Negative", 25 AVDD (power) "Analog Supply/Driver", 26 txOutP (out) "Line Driver Output Positive", 27 GNDA (power) "Analog Ground/Driver", 28 GNDA (power) "Analog Ground Transmit"

## AFE1230E/1KG4
designator U?
G.SHDSL Analog Front End, 28-Pin SSOP; Published: 16-Dec-2005; DatasheetVersion: 19-May-2005; PackageVersion: Dec-2001; PackageReference: DB028; Publisher: Altium Limited; PackageDescription: SSOP, Plastic; 28 Leads; Body Width 5.3 mm; Pitch 0.65 mm; Code_JEDEC: MO-150-AH; ComponentLink1Description: Manufacturer Link; ComponentLink1URL: http://www.ti.com/; ComponentLink2Description: Datasheet; ComponentLink2URL: http://focus.ti.com/lit/ds/symlink/afe1230.pdf
footprint DB028 (SSOP, Plastic; 28 Leads; Body Width 5.3 mm; Pitch 0.65 mm)
pins: 1 DVDD (power) "Digital Supply", 2 GNDD (power) "Digital Ground", 3 txBaud (in) "Transmit Baud Clock", 4 txData (in) "Digital Input of Transmit Section", 5 MCLK (in) "Master Clock 48x Clock", 6 rxBaud (in) "Recieve Baud Clock", 7 rxData (out) "Digital Output of Recieve Section", 8 DVDD (power) "Digital Supply", 9 GNDD (power) "Digital Ground", 10 GNDA (power) "Analog Ground", 11 HybP (in) "Positive Hybrid Input", 12 HybM (in) "Negative Hybrid Input", 13 LineP (in) "Positive Line Input", 14 LineM (in) "Negative Line Input", 15 GNDA (power) "Analog Ground Recieve", 16 GNDA (power) "Analog Ground Reference", 17 VREFP (out) "Positive Reference Voltage, rx/tx", 18 VCM (out) "Common-Mode Voltage, rx/tx", 19 VREFM (out) "Negative Reference Input, rx/tx", 20 AVDD (power) "Analog Supply Reference", 21 AVDD (power) "Analog Supply Recieve", 22 AVDD (power) "Analog Supply Transmit", 23 GNDA (power) "Analog Ground/Driver", 24 txOutM (out) "Line Driver Output Negative", 25 AVDD (power) "Analog Supply/Driver", 26 txOutP (out) "Line Driver Output Positive", 27 GNDA (power) "Analog Ground/Driver", 28 GNDA (power) "Analog Ground Transmit"

## AFE1302Y/2K
designator U?
ADSL Analog Front End, 48-Pin TQFP; Published: 16-Dec-2005; LatestRevisionDate: 13-Apr-2006; LatestRevisionNote: IPC-7351 Footprint Added.; DatasheetVersion: 11-Oct-2005; PackageVersion: Jan-1998; PackageReference: PFB48; Publisher: Altium Limited; PackageDescription: 48-Pin Thin Plastic Quad Flat Pack 0.5 mm Pitch; Code_JEDEC: MS-026; ComponentLink1Description: Manufacturer Link; ComponentLink1URL: http://www.ti.com/; ComponentLink2Description: Datasheet; ComponentLink2URL: http://focus.ti.com/lit/ds/symlink/afe1302.pdf
footprint PFB48_N (Thin QFP, 48-Leads, Body 7x7mm, Pitch 0.5mm, IPC Medium Density)
footprint PFB48_L (Thin QFP, 48-Leads, Body 7x7mm, Pitch 0.5mm, IPC High Density)
footprint PFB48_M (Thin QFP, 48-Leads, Body 7x7mm, Pitch 0.5mm, IPC Low Density)
pins: 1 CLWD (out) "Word Clock Output", 2 CTRLIN (in) "Serial Data Input", 3 DVDD1 (power) "Digital Power", 4 DVSS1 (power) "Digital Ground 1", 5 TX3 (in) "Digital Transmit Input", 6 TX2 (in) "Digital Transmit Input", 7 TX1 (in) "Digital Transmit Input", 8 TX0 (in) "Digital Transmit Input", 9 RX3 (out) "Digital Receive Output", 10 RX2 (out) "Digital Receive Output", 11 RX1 (out) "Digital Receive Output", 12 RX0 (out) "Digital Receive Output", 13 CLIP (out) "Clipping Detection Output", 14 PDOWN (in) "Power-Down Select", 15 RESETN (in) "Reset Pin (Active LOW)", 16 GP2 (out) "General-Purpose Output 2", 17 GP1 (out) "General-Purpose Output 1", 18 GP0 (out) "General-Purpose Output 0", 19 RXN (in) "Analog Receive Negative Input", 20 RXP (in) "Analog Receive Positive Input", 21 AVDD3 (power) "Analog Power (Main)", 22 AVSS3 (power) "Analog Ground (Main)", 23 GC0 (out) "External Gain Control Output LSB", 24 GC1 (out) "External Gain Control Output MSB", 25 VRPRX (out) "RX Reference Positive Output", 26 VRNRX (out) "RX Reference Negative Output", 27 VRPTX (out) "TX Reference Positive Output", 28 VRNTX (out) "TX Reference Negative Output", 29 VREF1 (out) "Unbuffered Bandgap Reference", 30 CMO (out) "Output Common-Mode voltage", 31 CMI (out) "Unbuffered Common-Mode Voltage", 32 AVSS6 (power) "Analog Ground for TX Output", 33 TXN (out) "TX Negative Output", 34 AVDD4 (power) "Analog Power for TX Output", 35 TXP (out) "TX Positive Output", 36 AVSS4 (power) "Analog Ground for TX Output", 37 AVSS5 (power) "Analog Clock Ground", 38 AVSS2 (power) "Analog Clock Ground", 39 AVDD2 (power) "Analog Clock Power", 40 VREF2 (out) "DAC Reference Voltage", 41 VCXO (out) "VXCO Control Voltage DAC Output", 42 AVDD1 (power) "XTAL Power", 43 XTALI (in) "XTAL Oscillator Input", 44 XTALO (out) "XTAL Oscillator Output", 45 AVSS1 (power) "XTAL Ground", 46 DVSS2 (power) "Digital Ground 2", 47 CLKNIB (out) "Nibble Clock Output", 48 CLKM (out) "Master Clock Output, f = 35.328MHz"

## AFE1302Y/250
designator U?
ADSL Analog Front End, 48-Pin TQFP; Published: 16-Dec-2005; LatestRevisionDate: 13-Apr-2006; LatestRevisionNote: IPC-7351 Footprint Added.; DatasheetVersion: 11-Oct-2005; PackageVersion: Jan-1998; PackageReference: PFB48; Publisher: Altium Limited; PackageDescription: 48-Pin Thin Plastic Quad Flat Pack 0.5 mm Pitch; Code_JEDEC: MS-026; ComponentLink1Description: Manufacturer Link; ComponentLink1URL: http://www.ti.com/; ComponentLink2Description: Datasheet; ComponentLink2URL: http://focus.ti.com/lit/ds/symlink/afe1302.pdf
footprint PFB48_N (Thin QFP, 48-Leads, Body 7x7mm, Pitch 0.5mm, IPC Medium Density)
footprint PFB48_L (Thin QFP, 48-Leads, Body 7x7mm, Pitch 0.5mm, IPC High Density)
footprint PFB48_M (Thin QFP, 48-Leads, Body 7x7mm, Pitch 0.5mm, IPC Low Density)
pins: 1 CLWD (out) "Word Clock Output", 2 CTRLIN (in) "Serial Data Input", 3 DVDD1 (power) "Digital Power", 4 DVSS1 (power) "Digital Ground 1", 5 TX3 (in) "Digital Transmit Input", 6 TX2 (in) "Digital Transmit Input", 7 TX1 (in) "Digital Transmit Input", 8 TX0 (in) "Digital Transmit Input", 9 RX3 (out) "Digital Receive Output", 10 RX2 (out) "Digital Receive Output", 11 RX1 (out) "Digital Receive Output", 12 RX0 (out) "Digital Receive Output", 13 CLIP (out) "Clipping Detection Output", 14 PDOWN (in) "Power-Down Select", 15 RESETN (in) "Reset Pin (Active LOW)", 16 GP2 (out) "General-Purpose Output 2", 17 GP1 (out) "General-Purpose Output 1", 18 GP0 (out) "General-Purpose Output 0", 19 RXN (in) "Analog Receive Negative Input", 20 RXP (in) "Analog Receive Positive Input", 21 AVDD3 (power) "Analog Power (Main)", 22 AVSS3 (power) "Analog Ground (Main)", 23 GC0 (out) "External Gain Control Output LSB", 24 GC1 (out) "External Gain Control Output MSB", 25 VRPRX (out) "RX Reference Positive Output", 26 VRNRX (out) "RX Reference Negative Output", 27 VRPTX (out) "TX Reference Positive Output", 28 VRNTX (out) "TX Reference Negative Output", 29 VREF1 (out) "Unbuffered Bandgap Reference", 30 CMO (out) "Output Common-Mode voltage", 31 CMI (out) "Unbuffered Common-Mode Voltage", 32 AVSS6 (power) "Analog Ground for TX Output", 33 TXN (out) "TX Negative Output", 34 AVDD4 (power) "Analog Power for TX Output", 35 TXP (out) "TX Positive Output", 36 AVSS4 (power) "Analog Ground for TX Output", 37 AVSS5 (power) "Analog Clock Ground", 38 AVSS2 (power) "Analog Clock Ground", 39 AVDD2 (power) "Analog Clock Power", 40 VREF2 (out) "DAC Reference Voltage", 41 VCXO (out) "VXCO Control Voltage DAC Output", 42 AVDD1 (power) "XTAL Power", 43 XTALI (in) "XTAL Oscillator Input", 44 XTALO (out) "XTAL Oscillator Output", 45 AVSS1 (power) "XTAL Ground", 46 DVSS2 (power) "Digital Ground 2", 47 CLKNIB (out) "Nibble Clock Output", 48 CLKM (out) "Master Clock Output, f = 35.328MHz"

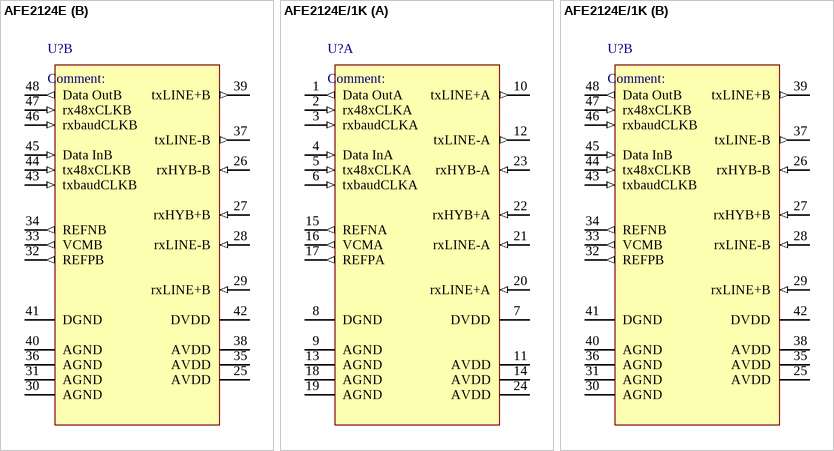
[diagram p2: symbols AFE2124E to AFE2124E/1K]

## AFE2124E
designator U?
Dual HDSL/SDSL Analog Front End, 48-Pin SSOP; Published: 16-Dec-2005; DatasheetVersion: 23-Apr-2005; PackageVersion: Dec-2001; PackageReference: DL048; Publisher: Altium Limited; PackageDescription: SSOP; 48 Leads; Body Width 7.5 mm; Pitch 0.635 mm; Code_JEDEC: MO-118-AA; Code_IPC: SSO48; ComponentLink1Description: Manufacturer Link; ComponentLink1URL: http://www.ti.com/; ComponentLink2Description: Datasheet; ComponentLink2URL: http://focus.ti.com/lit/ds/symlink/afe2124.pdf
footprint DL048 (SSOP; 48 Leads; Body Width 7.5 mm; Pitch 0.635 mm)
part A pins: 1 Data OutA (out) "Output Data Word", 2 rx48xCLKA (in) "Receive Clock at 48x Baud Clock (23.032MHz for E1)", 3 rxbaudCLKA (in) "Receive Baud Clock (584kHz for E1)", 4 Data InA (in) "Input Data Word", 5 tx48xCLKA (in) "Transmit Clock (584kHz for E1)", 6 txbaudCLKA (in) "Transmit Baud Clock at 48x Baud Clock (584kHz for E1)", 7 DVDD (power) "Digital Supply (+3.3V to +5V)", 8 DGND (power) "Digital Ground", 9 AGND (power) "Analog Ground", 10 txLINE+A (out) "Transmit Line Driver Output, Positive", 11 AVDD (power) "Analog Supply (+5V)", 12 txLINE-A (out) "Transmit Line Driver Output, Negative", 13 AGND (power) "Analog Ground", 14 AVDD (power) "Analog Supply (+5V)", 15 REFNA (out) "Negative Reference Output", 16 VCMA (out) "Common-Mode Voltage (buffered)", 17 REFPA (out) "Positive Reference Output", 18 AGND (power) "Analog Ground", 19 AGND (power) "Analog Ground", 20 rxLINE+A (in) "Positive Line Input", 21 rxLINE-A (in) "Negative Line Input", 22 rxHYB+A (in) "Positive Input from Hybrid Network", 23 rxHYB-A (in) "Negative Input from Hybrid Network", 24 AVDD (power) "Analog Supply (+5V)"
part B pins: 25 AVDD (power) "Analog Supply (+5V)", 26 rxHYB-B (in) "Negative Input from Hybrid Network", 27 rxHYB+B (in) "Positive Input from Hybrid Network", 28 rxLINE-B (in) "Negative Line Input", 29 rxLINE+B (in) "Postiive Line Input", 30 AGND (power) "Analog Ground", 31 AGND (power) "Analog Ground", 32 REFPB (out) "Positive Reference Output", 33 VCMB (out) "Common-Mode Voltage (buffered)", 34 REFNB (out) "Negative Reference Output", 35 AVDD (power) "Analog Supply (+5V)", 36 AGND (power) "Analog Ground", 37 txLINE-B (out) "Transmit LIne Driver Output, Negative", 38 AVDD (power) "Analog Supply (+5V)", 39 txLINE+B (out) "Transmit Line Driver Output, Positive", 40 AGND (power) "Analog Ground", 41 DGND (power) "Digital Ground", 42 DVDD (power) "Digital Supply (+3.3V to +5V)", 43 txbaudCLKB (in) "Transmit Baud Clock (584kHz for E1)", 44 tx48xCLKB (in) "Transmit Clock at 48x Baud Clock (28.032MHz for E1)", 45 Data InB (in) "Input Data Word", 46 rxbaudCLKB (in) "Receive Baud Clock (584kHz for E1)", 47 rx48xCLKB (in) "Receive Clock at 48x Baud Clock (28.032MHz for E1)", 48 Data OutB (out) "Output Data Word"

## AFE2124E/1K
designator U?
Dual HDSL/SDSL Analog Front End, 48-Pin SSOP; Published: 16-Dec-2005; DatasheetVersion: 23-Apr-2005; PackageVersion: Dec-2001; PackageReference: DL048; Publisher: Altium Limited; PackageDescription: SSOP; 48 Leads; Body Width 7.5 mm; Pitch 0.635 mm; Code_JEDEC: MO-118-AA; Code_IPC: SSO48; ComponentLink1Description: Manufacturer Link; ComponentLink1URL: http://www.ti.com/; ComponentLink2Description: Datasheet; ComponentLink2URL: http://focus.ti.com/lit/ds/symlink/afe2124.pdf
footprint DL048 (SSOP; 48 Leads; Body Width 7.5 mm; Pitch 0.635 mm)
part A pins: 1 Data OutA (out) "Output Data Word", 2 rx48xCLKA (in) "Receive Clock at 48x Baud Clock (23.032MHz for E1)", 3 rxbaudCLKA (in) "Receive Baud Clock (584kHz for E1)", 4 Data InA (in) "Input Data Word", 5 tx48xCLKA (in) "Transmit Clock (584kHz for E1)", 6 txbaudCLKA (in) "Transmit Baud Clock at 48x Baud Clock (584kHz for E1)", 7 DVDD (power) "Digital Supply (+3.3V to +5V)", 8 DGND (power) "Digital Ground", 9 AGND (power) "Analog Ground", 10 txLINE+A (out) "Transmit Line Driver Output, Positive", 11 AVDD (power) "Analog Supply (+5V)", 12 txLINE-A (out) "Transmit Line Driver Output, Negative", 13 AGND (power) "Analog Ground", 14 AVDD (power) "Analog Supply (+5V)", 15 REFNA (out) "Negative Reference Output", 16 VCMA (out) "Common-Mode Voltage (buffered)", 17 REFPA (out) "Positive Reference Output", 18 AGND (power) "Analog Ground", 19 AGND (power) "Analog Ground", 20 rxLINE+A (in) "Positive Line Input", 21 rxLINE-A (in) "Negative Line Input", 22 rxHYB+A (in) "Positive Input from Hybrid Network", 23 rxHYB-A (in) "Negative Input from Hybrid Network", 24 AVDD (power) "Analog Supply (+5V)"
part B pins: 25 AVDD (power) "Analog Supply (+5V)", 26 rxHYB-B (in) "Negative Input from Hybrid Network", 27 rxHYB+B (in) "Positive Input from Hybrid Network", 28 rxLINE-B (in) "Negative Line Input", 29 rxLINE+B (in) "Postiive Line Input", 30 AGND (power) "Analog Ground", 31 AGND (power) "Analog Ground", 32 REFPB (out) "Positive Reference Output", 33 VCMB (out) "Common-Mode Voltage (buffered)", 34 REFNB (out) "Negative Reference Output", 35 AVDD (power) "Analog Supply (+5V)", 36 AGND (power) "Analog Ground", 37 txLINE-B (out) "Transmit LIne Driver Output, Negative", 38 AVDD (power) "Analog Supply (+5V)", 39 txLINE+B (out) "Transmit Line Driver Output, Positive", 40 AGND (power) "Analog Ground", 41 DGND (power) "Digital Ground", 42 DVDD (power) "Digital Supply (+3.3V to +5V)", 43 txbaudCLKB (in) "Transmit Baud Clock (584kHz for E1)", 44 tx48xCLKB (in) "Transmit Clock at 48x Baud Clock (28.032MHz for E1)", 45 Data InB (in) "Input Data Word", 46 rxbaudCLKB (in) "Receive Baud Clock (584kHz for E1)", 47 rx48xCLKB (in) "Receive Clock at 48x Baud Clock (28.032MHz for E1)", 48 Data OutB (out) "Output Data Word"